# EAGLE library part JST-XH-8 (library custom)
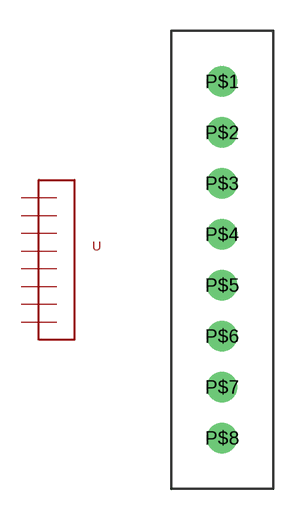
[diagram p9: symbol with the pads of 8PIN-2.5MM; footprint 8PIN-2.5MM]

Designator prefix -

## JST-XH-8  [8PIN-2.5MM]
P$1  P$1
P$2  P$2
P$3  P$3
P$4  P$4
P$5  P$5
P$6  P$6
P$7  P$7
P$8  P$8

## Footprint 8PIN-2.5MM (pad centres in mm)
drill 1: P$1 0,8.75; P$2 0,6.25; P$3 0,3.75; P$4 0,1.25; P$5 0,-1.25; P$6 0,-3.75; P$7 0,-6.25; P$8 0,-8.75